# Altium schematic symbol library PRPC004SAAN-RC.SchLib: 2 symbols
Pins are listed as number, name and electrical type; pins without a type are passive.

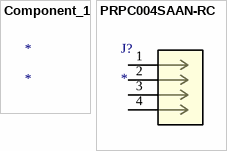
[diagram p0: symbols Component_1 to PRPC004SAAN-RC]

## Component_1
designator *

## PRPC004SAAN-RC
designator J?
No Description Available; Mfr_Name: Sullins; Type: Headers, Male Pins; RefDes: RefDes
footprint CONN4_PRPC004_SUL
pins: 1, 2, 3, 4